# EAGLE library part MA08-1 (library cruz_technologies)
PIN HEADER
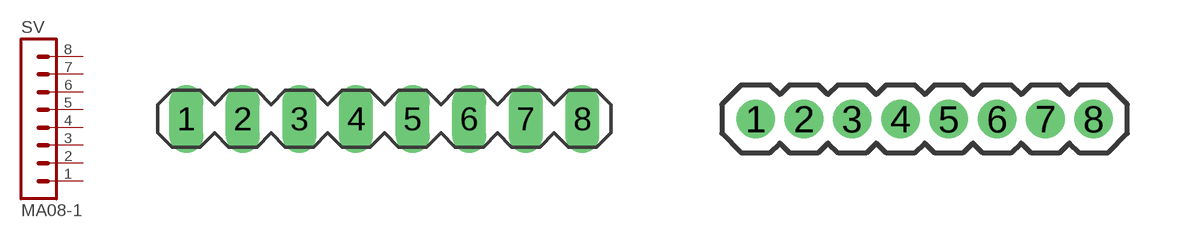
[diagram p5: symbol with the pads of MA08-1; footprints MA08-1, 1X8-1.27MM]

Designator prefix SV

## MA08-12.54 (OC_FARNELL: unknown; OC_NEWARK: unknown)  [MA08-1]
1  1  pas
2  2  pas
3  3  pas
4  4  pas
5  5  pas
6  6  pas
7  7  pas
8  8  pas

## MA08-11.27  [1X8-1.27MM]
Pads as for MA08-1

## Footprint MA08-1 (pad centres in mm)
PIN HEADER
drill 1.016 long: 1 -8.89,0; 2 -6.35,0; 3 -3.81,0; 4 -1.27,0; 5 1.27,0; 6 3.81,0; 7 6.35,0; 8 8.89,0

## Footprint 1X8-1.27MM (pad centres in mm)
drill 0.508 pad 1: 1 -4.445,0; 2 -3.175,0; 3 -1.905,0; 4 -0.635,0; 5 0.635,0; 6 1.905,0; 7 3.175,0; 8 4.445,0